# EAGLE library part MBED-NUCLEO-F401RE-MORPHO (library mbed-nucleo)
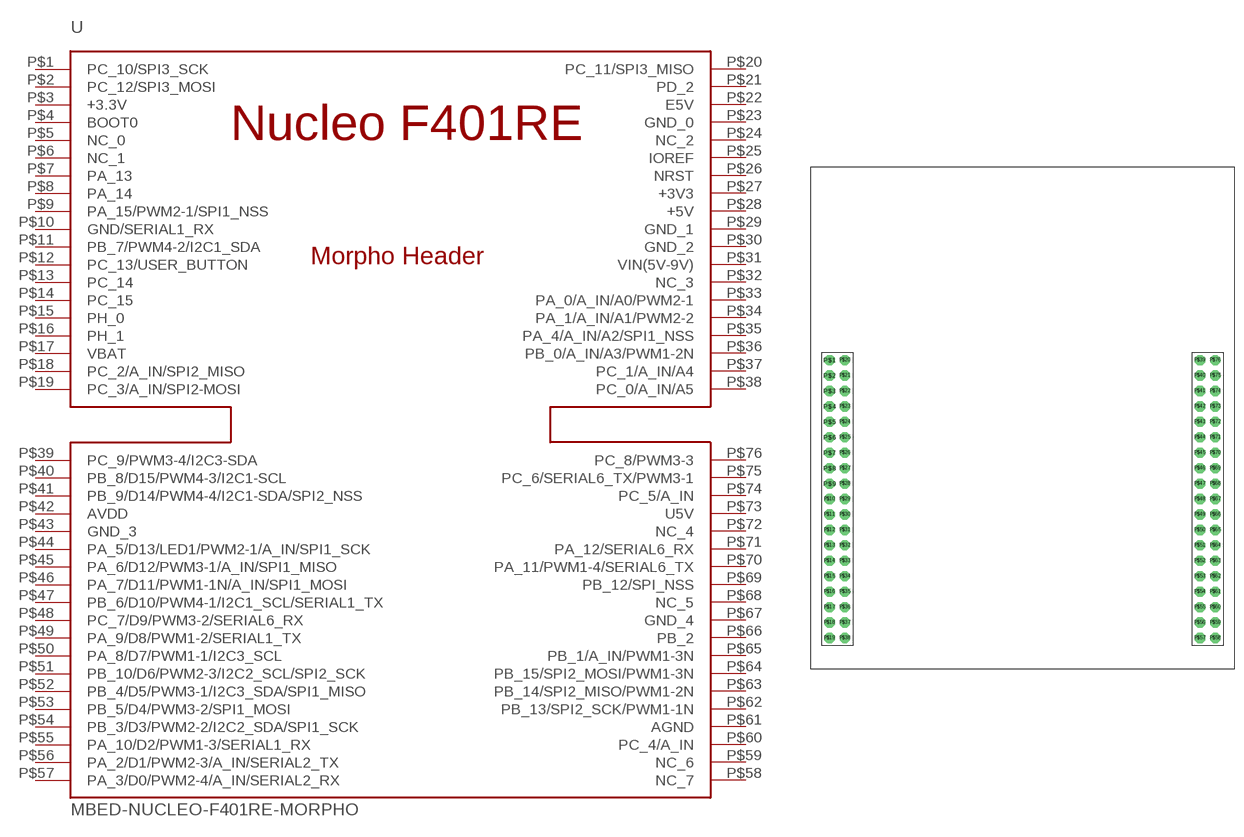
[diagram p0: symbol with the pads of MORPHO-HEADERS; footprint MORPHO-HEADERS]

Designator prefix -

## MBED-NUCLEO-F401RE-MORPHONUCLEOF401RE-MORPHO  [MORPHO-HEADERS]
P$1  PC_10/SPI3_SCK
P$2  PC_12/SPI3_MOSI
P$3  +3.3V
P$4  BOOT0
P$5  NC_0
P$6  NC_1
P$7  PA_13
P$8  PA_14
P$9  PA_15/PWM2-1/SPI1_NSS
P$10  GND/SERIAL1_RX
P$11  PB_7/PWM4-2/I2C1_SDA
P$12  PC_13/USER_BUTTON
P$13  PC_14
P$14  PC_15
P$15  PH_0
P$16  PH_1
P$17  VBAT
P$18  PC_2/A_IN/SPI2_MISO
P$19  PC_3/A_IN/SPI2-MOSI
P$20  PC_11/SPI3_MISO
P$21  PD_2
P$22  E5V
P$23  GND_0
P$24  NC_2
P$25  IOREF
P$26  NRST
P$27  +3V3
P$28  +5V
P$29  GND_1
P$30  GND_2
P$31  VIN(5V-9V)
P$32  NC_3
P$33  PA_0/A_IN/A0/PWM2-1
P$34  PA_1/A_IN/A1/PWM2-2
P$35  PA_4/A_IN/A2/SPI1_NSS
P$36  PB_0/A_IN/A3/PWM1-2N
P$37  PC_1/A_IN/A4
P$38  PC_0/A_IN/A5
P$39  PC_9/PWM3-4/I2C3-SDA
P$40  PB_8/D15/PWM4-3/I2C1-SCL
P$41  PB_9/D14/PWM4-4/I2C1-SDA/SPI2_NSS
P$42  AVDD
P$43  GND_3
P$44  PA_5/D13/LED1/PWM2-1/A_IN/SPI1_SCK
P$45  PA_6/D12/PWM3-1/A_IN/SPI1_MISO
P$46  PA_7/D11/PWM1-1N/A_IN/SPI1_MOSI
P$47  PB_6/D10/PWM4-1/I2C1_SCL/SERIAL1_TX
P$48  PC_7/D9/PWM3-2/SERIAL6_RX
P$49  PA_9/D8/PWM1-2/SERIAL1_TX
P$50  PA_8/D7/PWM1-1/I2C3_SCL
P$51  PB_10/D6/PWM2-3/I2C2_SCL/SPI2_SCK
P$52  PB_4/D5/PWM3-1/I2C3_SDA/SPI1_MISO
P$53  PB_5/D4/PWM3-2/SPI1_MOSI
P$54  PB_3/D3/PWM2-2/I2C2_SDA/SPI1_SCK
P$55  PA_10/D2/PWM1-3/SERIAL1_RX
P$56  PA_2/D1/PWM2-3/A_IN/SERIAL2_TX
P$57  PA_3/D0/PWM2-4/A_IN/SERIAL2_RX
P$58  NC_7
P$59  NC_6
P$60  PC_4/A_IN
P$61  AGND
P$62  PB_13/SPI2_SCK/PWM1-1N
P$63  PB_14/SPI2_MISO/PWM1-2N
P$64  PB_15/SPI2_MOSI/PWM1-3N
P$65  PB_1/A_IN/PWM1-3N
P$66  PB_2
P$67  GND_4
P$68  NC_5
P$69  PB_12/SPI_NSS
P$70  PA_11/PWM1-4/SERIAL6_TX
P$71  PA_12/SERIAL6_RX
P$72  NC_4
P$73  U5V
P$74  PC_5/A_IN
P$75  PC_6/SERIAL6_TX/PWM3-1
P$76  PC_8/PWM3-3

## Footprint MORPHO-HEADERS (pad centres in mm)
drill 0.8 pad 1.676 octagon: P$1 -31.75,15.875; P$2 -31.75,13.335; P$3 -31.75,10.795; P$4 -31.75,8.255; P$5 -31.75,5.715; P$6 -31.75,3.175; P$7 -31.75,0.635; P$8 -31.75,-1.905; P$9 -31.75,-4.445; P$10 -31.75,-6.985; P$11 -31.75,-9.525; P$12 -31.75,-12.065; P$13 -31.75,-14.605; P$14 -31.75,-17.145; P$15 -31.75,-19.685; P$16 -31.75,-22.225; P$17 -31.75,-24.765; P$18 -31.75,-27.305; P$19 -31.75,-29.845; P$20 -29.21,15.875; P$21 -29.21,13.335; P$22 -29.21,10.795; P$23 -29.21,8.255; P$24 -29.21,5.715; P$25 -29.21,3.175; P$26 -29.21,0.635; P$27 -29.21,-1.905; P$28 -29.21,-4.445; P$29 -29.21,-6.985; P$30 -29.21,-9.525; P$31 -29.21,-12.065; P$32 -29.21,-14.605; P$33 -29.21,-17.145; P$34 -29.21,-19.685; P$35 -29.21,-22.225; P$36 -29.21,-24.765; P$37 -29.21,-27.305; P$38 -29.21,-29.845; P$39 29.21,15.875; P$40 29.21,13.335; P$41 29.21,10.795; P$42 29.21,8.255; P$43 29.21,5.715; P$44 29.21,3.175; P$45 29.21,0.635; P$46 29.21,-1.905; P$47 29.21,-4.445; P$48 29.21,-6.985; P$49 29.21,-9.525; P$50 29.21,-12.065; P$51 29.21,-14.605; P$52 29.21,-17.145; P$53 29.21,-19.685; P$54 29.21,-22.225; P$55 29.21,-24.765; P$56 29.21,-27.305; P$57 29.21,-29.845; P$58 31.75,-29.845; P$59 31.75,-27.305; P$60 31.75,-24.765; P$61 31.75,-22.225; P$62 31.75,-19.685; P$63 31.75,-17.145; P$64 31.75,-14.605; P$65 31.75,-12.065; P$66 31.75,-9.525; P$67 31.75,-6.985; P$68 31.75,-4.445; P$69 31.75,-1.905; P$70 31.75,0.635; P$71 31.75,3.175; P$72 31.75,5.715; P$73 31.75,8.255; P$74 31.75,10.795; P$75 31.75,13.335; P$76 31.75,15.875